# EAGLE library part M25PX80-VMN6TP (library micron)
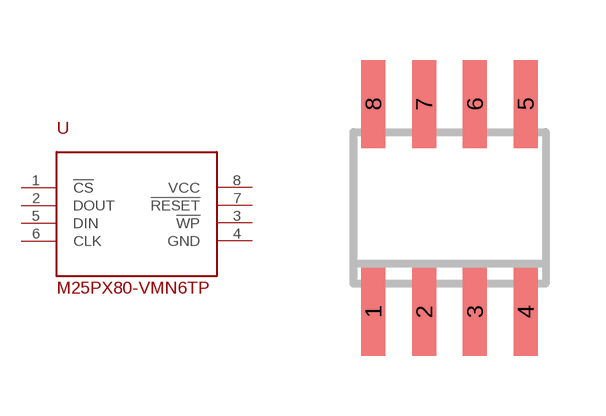
[diagram p0: symbol with the pads of SO-08; footprint SO-08]

Designator prefix U

## M25PX80-VMN6TP  [SO-08]
1  !CS
2  DOUT
3  !WP
4  GND
5  DIN
6  CLK
7  !RESET
8  VCC

## Footprint SO-08 (pad centres in mm)
D (R-PDSO-G8) Plastic Small Outline Package Source: http://focus.ti.com/lit/ds/symlink/sn65als176.pdf
smd 0.6 x 2.2: 1 -1.905,-2.6; 2 -0.635,-2.6; 3 0.635,-2.6; 4 1.905,-2.6; 5 1.905,2.6; 6 0.635,2.6; 7 -0.635,2.6; 8 -1.905,2.6